# Altium schematic symbol library SCH - CONNECTORS - Amphenol - 10118193-0001LF.SchLib: 1 symbol
Pins are listed as number, name and electrical type; pins without a type are passive.

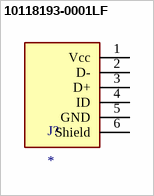
[diagram p0: symbol 10118193-0001LF]

## 10118193-0001LF
designator J?
pins: 1 Vcc, 2 D-, 3 D+, 4 ID, 5 GND, 6 Shield